# EAGLE library part VENUS-838FLPX-L (library pimoroni)
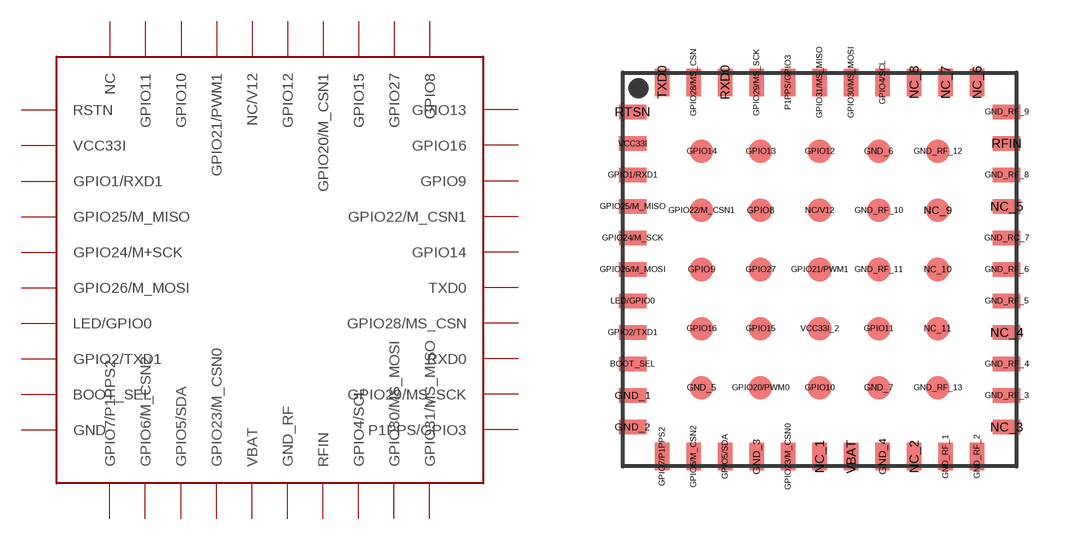
[diagram p55: symbol with the pads of VENUS-838FLPX-L; footprint VENUS-838FLPX-L]

Designator prefix -

## VENUS-838FLPX-L  [VENUS-838FLPX-L]
BOOT_SEL  BOOT_SEL
GND_1  GND
GND_2  GND
GND_3  GND
GND_4  GND
GND_5  GND
GND_6  GND
GND_7  GND
GND_RC_7  GND_RF
GND_RF_1  GND_RF
GND_RF_2  GND_RF
GND_RF_3  GND_RF
GND_RF_4  GND_RF
GND_RF_5  GND_RF
GND_RF_6  GND_RF
GND_RF_8  GND_RF
GND_RF_9  GND_RF
GND_RF_10  GND_RF
GND_RF_11  GND_RF
GND_RF_12  GND_RF
GND_RF_13  GND_RF
GPIO1/RXD1  GPIO1/RXD1
GPIO2/TXD1  GPIO2/TXD1
GPIO4/SCL  GPIO4/SCL
GPIO5/SDA  GPIO5/SDA
GPIO6/M_CSN2  GPIO6/M_CSN2
GPIO7/P1PPS2  GPIO7/P1PPS2
GPIO8  GPIO8
GPIO9  GPIO9
GPIO10  GPIO10
GPIO11  GPIO11
GPIO12  GPIO12
GPIO13  GPIO13
GPIO14  GPIO14
GPIO15  GPIO15
GPIO16  GPIO16
GPIO20/PWM0  GPIO20/M_CSN1
GPIO21/PWM1  GPIO21/PWM1
GPIO22/M_CSN1  GPIO22/M_CSN1
GPIO23/M_CSN0  GPIO23/M_CSN0
GPIO24/M_SCK  GPIO24/M+SCK
GPIO25/M_MISO  GPIO25/M_MISO
GPIO26/M_MOSI  GPIO26/M_MOSI
GPIO27  GPIO27
GPIO28/MS_CSN  GPIO28/MS_CSN
GPIO29/MS_SCK  GPIO29/MS_SCK
GPIO30/MS_MOSI  GPIO30/MS_MOSI
GPIO31/MS_MISO  GPIO31/MS_MISO
LED/GPIO0  LED/GPIO0
NC/V12  NC/V12
NC_1  NC
NC_2  NC
NC_3  NC
NC_4  NC
NC_5  NC
NC_6  NC
NC_7  NC
NC_8  NC
NC_9  NC
NC_10  NC
NC_11  NC
P1PPS/GPIO3  P1PPS/GPIO3
RFIN  RFIN
RTSN  RSTN
RXD0  RXD0
TXD0  TXD0
VBAT  VBAT
VCC33I  VCC33I
VCC33I_2  VCC33I

## Footprint VENUS-838FLPX-L (pad centres in mm)
smd 0.7 x 0.36: BOOT_SEL -4.75,-2.4; GND_1 -4.75,-3.2; GND_2 -4.75,-4; GND_RC_7 4.75,0.8; GND_RF_3 4.75,-3.2; GND_RF_4 4.75,-2.4; GND_RF_5 4.75,-0.8; GND_RF_6 4.75,0; GND_RF_8 4.75,2.4; GND_RF_9 4.75,4; GPIO1/RXD1 -4.75,2.4; GPIO2/TXD1 -4.75,-1.6; GPIO24/M_SCK -4.75,0.8; GPIO25/M_MISO -4.75,1.6; GPIO26/M_MOSI -4.75,0; LED/GPIO0 -4.75,-0.8; NC_3 4.75,-4; NC_4 4.75,-1.6; NC_5 4.75,1.6; RFIN 4.75,3.2; RTSN -4.75,4; VCC33I -4.75,3.2
smd 0.36 x 0.7: GND_3 -1.6,-4.75; GND_4 1.6,-4.75; GND_RF_1 3.2,-4.75; GND_RF_2 4,-4.75; GPIO4/SCL 1.6,4.75; GPIO5/SDA -2.4,-4.75; GPIO6/M_CSN2 -3.2,-4.75; GPIO7/P1PPS2 -4,-4.75; GPIO23/M_CSN0 -0.8,-4.75; GPIO28/MS_CSN -3.2,4.75; GPIO29/MS_SCK -1.6,4.75; GPIO30/MS_MOSI 0.8,4.75; GPIO31/MS_MISO 0,4.75; NC_1 0,-4.75; NC_2 2.4,-4.75; NC_6 4,4.75; NC_7 3.2,4.75; NC_8 2.4,4.75; P1PPS/GPIO3 -0.8,4.75; RXD0 -2.4,4.75; TXD0 -4,4.75; VBAT 0.8,-4.75
smd 0.6 x 0.6: GND_5 -3,-3; GND_6 1.5,3; GND_7 1.5,-3; GND_RF_10 1.5,1.5; GND_RF_11 1.5,0; GND_RF_12 3,3; GND_RF_13 3,-3; GPIO8 -1.5,1.5; GPIO9 -3,0; GPIO10 0,-3; GPIO11 1.5,-1.5; GPIO12 0,3; GPIO13 -1.5,3; GPIO14 -3,3; GPIO15 -1.5,-1.5; GPIO16 -3,-1.5; GPIO20/PWM0 -1.5,-3; GPIO21/PWM1 0,0; GPIO22/M_CSN1 -3,1.5; GPIO27 -1.5,0; NC/V12 0,1.5; NC_9 3,1.5; NC_10 3,0; NC_11 3,-1.5; VCC33I_2 0,-1.5